# Altium schematic symbol library Sensor_Board_Schematics.SchLib: 8 symbols
Pins are listed as number, name and electrical type; pins without a type are passive.

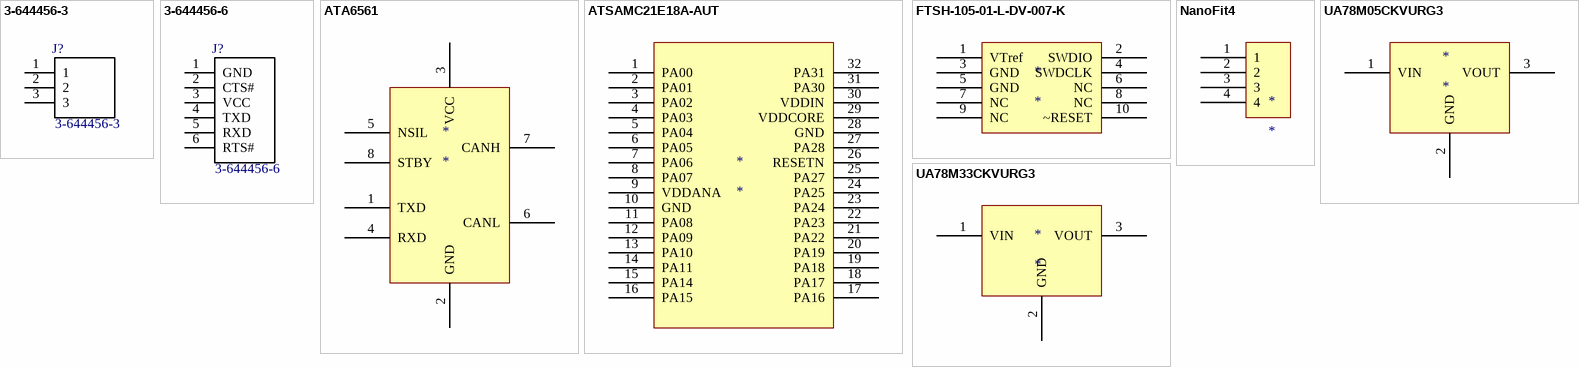
[diagram p0: symbols 3-644456-3 to UA78M33CKVURG3]

## 3-644456-3
designator J?
Value: *
footprint *TE_3-644456-3
pins: 1, 2, 3

## 3-644456-6
designator J?
Value: *
footprint *TE_3-644456-6
pins: 1 GND, 2 CTS#, 3 VCC, 4 TXD, 5 RXD, 6 RTS#

## ATA6561
designator *
footprint SOIC127P600X175-8N (SOIC, 8-Leads, Body 4.90x3.90mm, Pitch 1.27mm, IPC Medium Density)
pins: 1 TXD, 2 GND, 3 VCC, 4 RXD, 5 NSIL, 6 CANL, 7 CANH, 8 STBY

## ATSAMC21E18A-AUT
designator *
footprint TQFP80P900X900X120-32N (TQFP, 32-Leads, Body 7.00x7.00mm, Pitch 0.80mm, IPC Medium Density)
pins: 1 PA00, 2 PA01, 3 PA02, 4 PA03, 5 PA04, 6 PA05, 7 PA06, 8 PA07, 9 VDDANA, 10 GND, 11 PA08, 12 PA09, 13 PA10, 14 PA11, 15 PA14, 16 PA15, 17 PA16, 18 PA17, 19 PA18, 20 PA19, 21 PA22, 22 PA23, 23 PA24, 24 PA25, 25 PA27, 26 RESETN, 27 PA28, 28 GND, 29 VDDCORE, 30 VDDIN, 31 PA30, 32 PA31

## FTSH-105-01-L-DV-007-K
designator *
footprint FTSH-105-01-L-DV-007-K
pins: 1 VTref, 2 SWDIO, 3 GND, 4 SWDCLK, 5 GND, 6 NC, 7 NC, 8 NC, 9 NC, 10 ~RESET

## NanoFit4
designator *
footprint 1053141304
pins: 1, 2, 3, 4

## UA78M05CKVURG3
designator *
footprint DPAK229P991X252-3N (D-PAK, 3-Pads, Body 6.21x6.71mm (max), IPC Medium Density); pin to pad 2>4
pins: 1 VIN, 2 GND, 3 VOUT

## UA78M33CKVURG3
designator *
footprint DPAK229P991X252-3N (D-PAK, 3-Pads, Body 6.21x6.71mm (max), IPC Medium Density); pin to pad 2>4
pins: 1 VIN, 2 GND, 3 VOUT